# Altium schematic symbol library 2 PIN.SchLib: 1 symbol
Pins are listed as number, name and electrical type; pins without a type are passive.

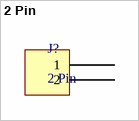
[diagram p0: symbol 2 Pin]

## 2 Pin
designator J?
pins: 1, 2